# EAGLE library part DRV8801 (library igeek)
TI DRV8801 DMOS FULL-BRIDGE MOTOR DRIVER
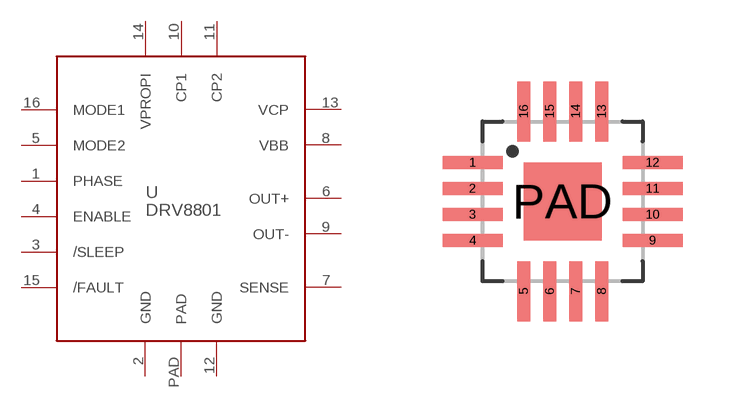
[diagram p1: symbol with the pads of QFN16; footprint QFN16]

Designator prefix -

## DRV8801  [QFN16]
1  PHASE  in
2  GND  pwr
3  /SLEEP  in
4  ENABLE  in
5  MODE2  in
6  OUT+
7  SENSE  pas
8  VBB  pwr
9  OUT-
10  CP1  pas
11  CP2  pas
12  GND  pwr
13  VCP  pwr
14  VPROPI  out
15  /FAULT  oc
16  MODE1  in
PAD  PAD  pwr

## Footprint QFN16 (pad centres in mm)
QFN16 4x4 mm 0.65 mm pitch
smd 1.5 x 0.325: 1 -2.25,0.975; 2 -2.25,0.325; 3 -2.25,-0.325; 4 -2.25,-0.975; 9 2.25,-0.975; 10 2.25,-0.325; 11 2.25,0.325; 12 2.25,0.975
smd 0.325 x 1.5: 5 -0.975,-2.25; 6 -0.325,-2.25; 7 0.325,-2.25; 8 0.975,-2.25; 13 0.975,2.25; 14 0.325,2.25; 15 -0.325,2.25; 16 -0.975,2.25
smd 1.95 x 1.95: PAD 0,0